# Altium footprint library Footprints.PcbLib: 54 footprints (part 3 of 4)
Each footprint in its own frame and in the unit in brackets; x right, y up, seen from the top. Pads: shape width x height; smd on the part's side, far side on the other; paste and mask are expansions set on the pad; w line width, h text height; cw(c..) or ccw(c..) is an arc to the next point about the centre after c.
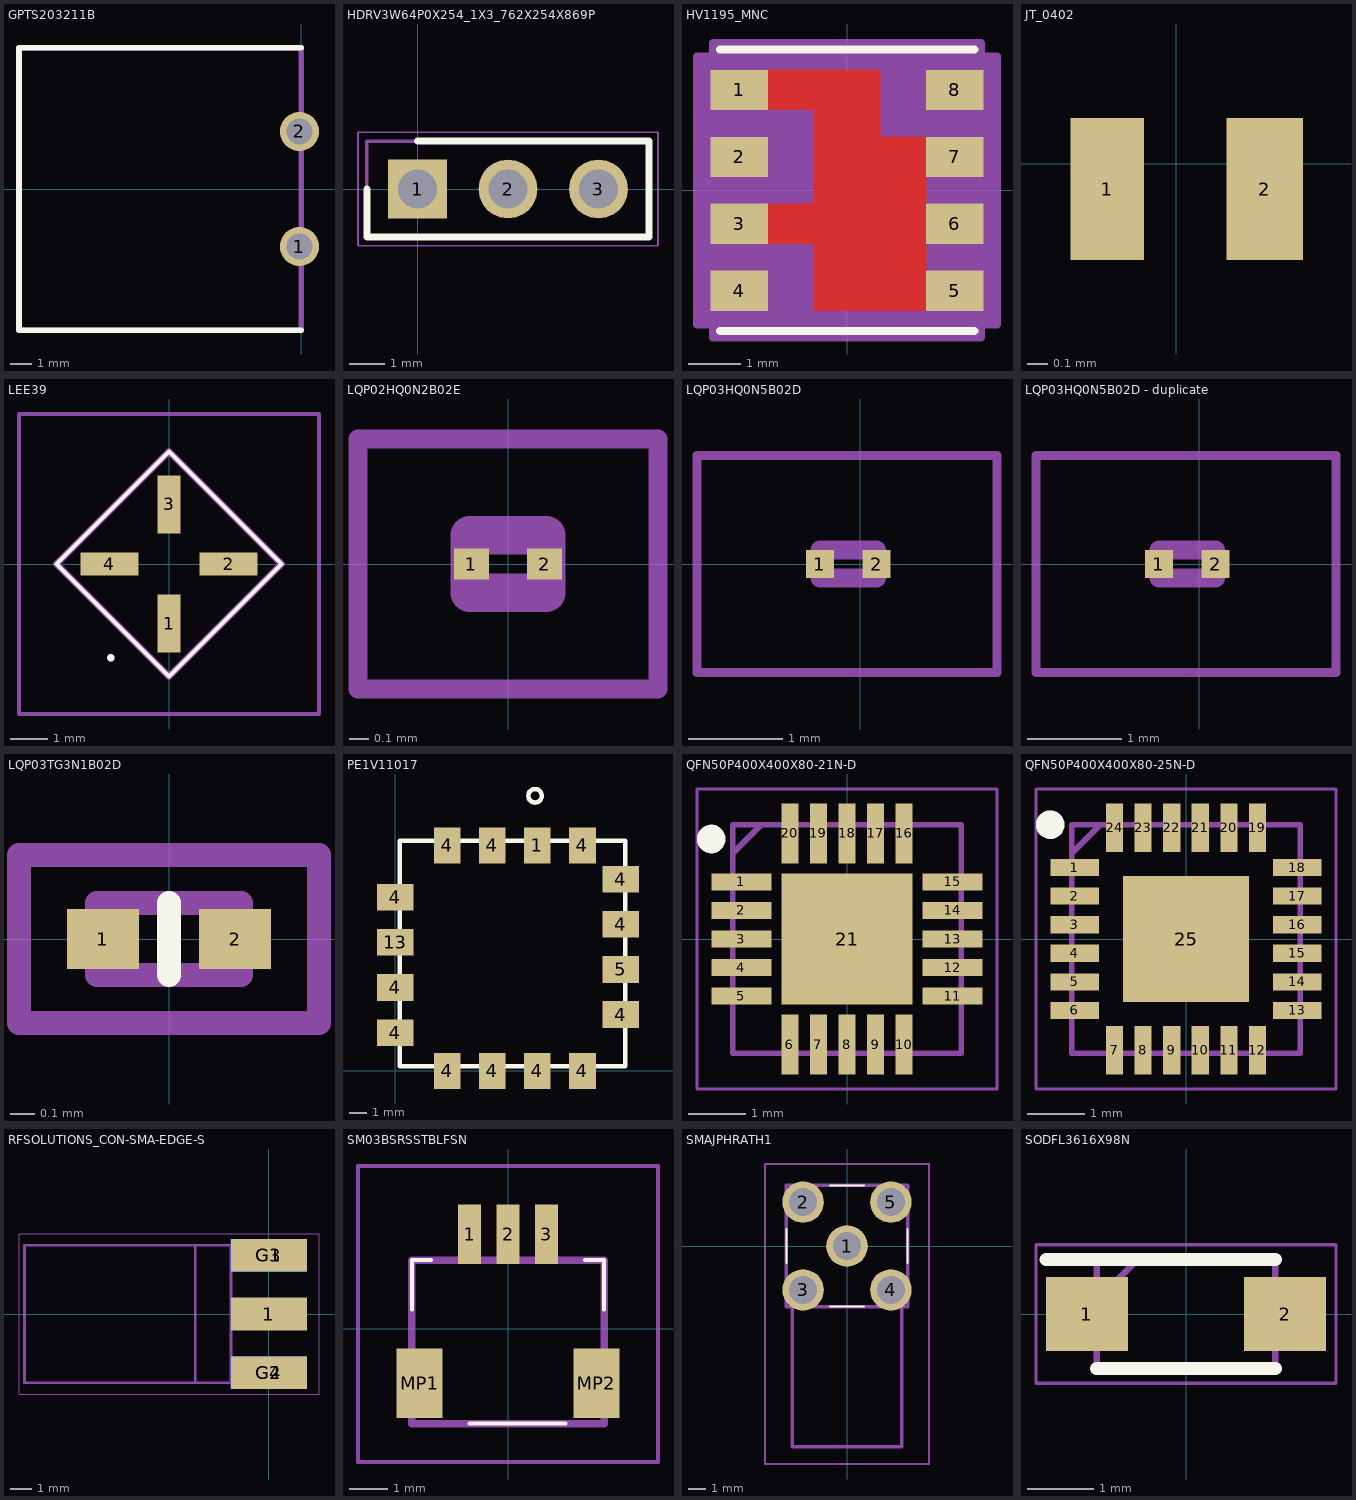
[diagram p2: the footprints below, top view; thin cyan lines are the x and y axes]

## GPTS203211B [mm]
pads (2):
  round 1.8 hole 1.2: 1(-0.081,-2.65) 2(-0.081,2.65)
Top Overlay:
  lines w0.254: 0,-6.5 -13,-6.5 -13,6.5 0,6.5
Mechanical 13:
  lines w0.254: -13,-6.5 0,-6.5 0,6.5 -13,6.5 -13,-6.5
3D body "GPTS203211B.stp": height 9.21, standoff -2.09, extent -12.79,-6.02 0.11,5.98

## HDRV3W64P0X254_1X3_762X254X869P [mm]
pads (3):
  rect 1.65x1.65 hole 1.1: 1(0,0)
  round 1.65 hole 1.1: 2(2.54,0) 3(5.08,0)
Top Overlay:
  lines w0.2: -1.42,0 -1.42,-1.345 6.5,-1.345 6.5,1.345 0,1.345
Mechanical 13:
  lines w0.1: -1.42,-1.345 -1.42,1.345 6.5,1.345 6.5,-1.345 -1.42,-1.345
Mechanical 15:
  lines w0.05: -1.67,-1.595 -1.67,1.595 6.75,1.595 6.75,-1.595 -1.67,-1.595
3D body "61300311121.stp": height 8.69, standoff -3.2, extent -1.27,-1.27 6.35,1.27

## HV1195_MNC [mil]
pads (8):
  rect 43x30 smd paste-15 mask+0: 1(-80.5,75) 2(-80.5,25) 3(-80.5,-25) 4(-80.5,-75) 5(80.5,-75) 6(80.5,-25) 7(80.5,25) 8(80.5,75)
Top Layer:
  region: -59,60 -59,90 25,90 25,40 59,40 59,-90 -25,-90 -25,-40 -59,-40 -59,-10 -25,-10 -25,60
Top Overlay:
  lines w6: -95,-105 95,-105 ; -95,105 95,105
Top Paste:
  region: -59,60 -59,90 25,90 25,40 59,40 59,-90 -25,-90 -25,-40 -59,-40 -59,-10 -25,-10 -25,60
Top Solder:
  region: -59,60 -59,90 25,90 25,40 59,40 59,-90 -25,-90 -25,-40 -59,-40 -59,-10 -25,-10 -25,60
Mechanical 13:
  lines w0: -12,100 ccw(c0,100) 12,100
  lines w1: -90,-100 90,-100 90,100 -90,100 -90,-100
Mechanical 15:
  region: -100,-100 -112,-100 -112,100 -100,100 -100,110 100,110 100,100 112,100 112,-100 100,-100 100,-110 -100,-110
  lines w6: -112,-100 -112,100 -100,100 -100,110 100,110 100,100 112,100 112,-100 100,-100 100,-110 -100,-110 -100,-100 -112,-100

## JT_0402 [mil]
pads (2):
  rect 14.5x28 smd: 1(-13.62,-5)
  rect 15x28 smd: 2(17.38,-5)
3D body: height 13.78, standoff 0, extent -18,-17 22,7

## LEE39 [mm]
pads (4):
  rect 0.61x1.545 smd: 1(0,-1.587) 3(0,1.588)
  rect 1.545x0.61 smd: 2(1.587,0) 4(-1.587,0)
Top Overlay:
  lines w0.1: -3,0 0,-3 3,0 0,3 -3,0 ; -1.6,-2.5 ccw(c-1.55,-2.5) -1.5,-2.5 ccw(c-1.55,-2.5) -1.6,-2.5
Mechanical 15:
  lines w0.2: -3,0 0,-3 3,0 0,3 -3,0
Mechanical 20:
  lines w0.1: -4,-4 -4,4 4,4 4,-4 -4,-4

## LQP02HQ0N2B02E [mm]
pads (2):
  rect 0.18x0.16 smd: 1(-0.19,0) 2(0.19,0)
Mechanical 13:
  lines w0.2: -0.2,-0.15 0.2,-0.15 0.2,0.15 -0.2,0.15 -0.2,-0.15
Mechanical 15:
  lines w0.1: -0.78,-0.65 0.78,-0.65 0.78,0.65 -0.78,0.65 -0.78,-0.65
3D body "LQP02HQ0N4W02L.stp": height 0.32, standoff 0, extent -0.2,-0.15 0.2,0.15

## LQP03HQ0N5B02D [mm]
pads (2):
  rect 0.3x0.3 smd: 1(-0.427,0) 2(0.173,0)
Mechanical 13:
  lines w0.2: -0.427,-0.15 0.173,-0.15 0.173,0.15 -0.427,0.15 -0.427,-0.15
Mechanical 15:
  lines w0.1: -1.73,-1.15 1.45,-1.15 1.45,1.15 -1.73,1.15 -1.73,-1.15
3D body "LQP03HQ0N5W02D.stp": height 0.42, standoff 0, extent -0.427,-0.15 0.173,0.15

## LQP03HQ0N5B02D - duplicate [mm]
pads (2):
  rect 0.3x0.3 smd: 1(-0.427,0) 2(0.173,0)
Mechanical 13:
  lines w0.2: -0.427,-0.15 -0.427,0.15 0.173,0.15 0.173,-0.15 -0.427,-0.15
Mechanical 15:
  lines w0.1: -1.73,-1.15 -1.73,1.15 1.45,1.15 1.45,-1.15 -1.73,-1.15
3D body "LQP03HQ0N5W02D.stp": height 0.42, standoff 0, extent -0.427,-0.15 0.173,0.15

## LQP03TG3N1B02D [mm]
pads (2):
  rect 0.3x0.25 smd: 1(-0.275,0) 2(0.275,0)
Top Overlay:
  lines w0.1: 0,-0.15 0,0.15
Mechanical 13:
  lines w0.1: -0.3,-0.15 -0.3,0.15 0.3,0.15 0.3,-0.15 -0.3,-0.15
Mechanical 15:
  lines w0.1: -0.625,-0.35 -0.625,0.35 0.625,0.35 0.625,-0.35 -0.625,-0.35
3D body "LQP03TN0N6B02D.stp": height 0.33, standoff 0, extent -0.3,-0.15 0.3,0.15

## PE1V11017 [mil]
pads (16):
  rect 59.06x80 smd: 1(315,500) 4(115,0) 4(115,500) 4(215,0) 4(215,500) 4(315,0) 4(415,0) 4(415,500)
  rect 80x59.06 smd: 4(0,85) 4(0,185) 4(0,385) 4(500,125) 4(500,325) 4(500,425) 5(500,225) 13(0,285)
Top Overlay:
  circle w10: c310,610 r15
  lines w10: 10,10 510,10 510,510 10,510 10,10

## QFN50P400X400X80-21N-D [mm]
pads (21):
  rect 1.05x0.3 smd: 1(-1.85,1) 2(-1.85,0.5) 3(-1.85,0) 4(-1.85,-0.5) 5(-1.85,-1) 11(1.85,-1) 12(1.85,-0.5) 13(1.85,0) 14(1.85,0.5) 15(1.85,1)
  rect 0.3x1.05 smd: 6(-1,-1.85) 7(-0.5,-1.85) 8(0,-1.85) 9(0.5,-1.85) 10(1,-1.85) 16(1,1.85) 17(0.5,1.85) 18(0,1.85) 19(-0.5,1.85) 20(-1,1.85)
  rect 2.3x2.3 smd: 21(0,0)
Top Overlay:
  circle w0.25: c-2.375,1.75 r0.125
Mechanical 13:
  lines w0.1: -2,1.5 -1.5,2 ; -2,-2 2,-2 2,2 -2,2 -2,-2
Mechanical 15:
  lines w0.05: -2.625,-2.625 2.625,-2.625 2.625,2.625 -2.625,2.625 -2.625,-2.625
3D body "ADF4106BCPZ-R7.stp": height 0.8, standoff 0, extent -2.05,-2.05 2.05,2.05

## QFN50P400X400X80-25N-D [mm]
pads (25):
  rect 0.85x0.3 smd: 1(-1.95,1.25) 2(-1.95,0.75) 3(-1.95,0.25) 4(-1.95,-0.25) 5(-1.95,-0.75) 6(-1.95,-1.25) 13(1.95,-1.25) 14(1.95,-0.75) 15(1.95,-0.25) 16(1.95,0.25) 17(1.95,0.75) 18(1.95,1.25)
  rect 0.3x0.85 smd: 7(-1.25,-1.95) 8(-0.75,-1.95) 9(-0.25,-1.95) 10(0.25,-1.95) 11(0.75,-1.95) 12(1.25,-1.95) 19(1.25,1.95) 20(0.75,1.95) 21(0.25,1.95) 22(-0.25,1.95) 23(-0.75,1.95) 24(-1.25,1.95)
  rect 2.2x2.2 smd: 25(0,0)
Top Overlay:
  circle w0.25: c-2.375,2 r0.125
Mechanical 13:
  lines w0.1: -2,1.5 -1.5,2 ; -2,-2 2,-2 2,2 -2,2 -2,-2
Mechanical 15:
  lines w0.05: -2.625,-2.625 2.625,-2.625 2.625,2.625 -2.625,2.625 -2.625,-2.625
3D body "ADF4159CCPZ-RL7.stp": height 0.8, standoff 0, extent -2.05,-2.05 2.05,2.05

## RFSOLUTIONS_CON-SMA-EDGE-S [mm]
height 6.35
pads (5):
  rect 3.5x1.5 smd: 1(0,0) G1(0,2.7) G2(0,-2.7)
  rect 3.5x1.5 smd far side: G3(0,2.7) G4(0,-2.7)
Mechanical 13:
  lines w0.127: -3.4,-3.175 -1.75,-3.175 -1.75,3.175 -3.4,3.175 ; -3.4,-3.175 -3.4,3.175 ; -3.4,-3.175 -11.27,-3.175 -11.27,3.175 -3.4,3.175
Mechanical 14:
  lines w0.127: -3.4,-3.175 -3.4,3.175 ; -3.4,-3.175 -1.75,-3.175 -1.75,3.175 -3.4,3.175 ; -3.4,-3.175 -11.27,-3.175 -11.27,3.175 -3.4,3.175
Mechanical 15:
  lines w0.05: -11.52,-3.7 2.31,-3.7 2.31,3.7 -11.52,3.7 -11.52,-3.7
Mechanical 16:
  lines w0.05: -11.52,-3.7 2.31,-3.7 2.31,3.7 -11.52,3.7 -11.52,-3.7
3D body "step_temp.STEP": height 3.55, standoff -2.8, extent -11.27,-3.175 2.06,3.175

## SM03BSRSSTBLFSN [mm]
pads (5):
  rect 0.6x1.55 smd: 1(-1,2.463) 2(0,2.463) 3(1,2.463)
  rect 1.2x1.8 smd: MP1(-2.3,-1.413) MP2(2.3,-1.413)
Top Overlay:
  lines w0.1: -2.5,0.5 -2.5,1.787 -2,1.787 ; -1,-2.463 1.5,-2.463 ; 2,1.787 2.5,1.787 2.5,0.5
Mechanical 13:
  lines w0.2: -2.5,-2.463 2.5,-2.463 2.5,1.787 -2.5,1.787 -2.5,-2.463
Mechanical 15:
  lines w0.1: -3.9,-3.463 3.9,-3.463 3.9,4.237 -3.9,4.237 -3.9,-3.463
3D body "SM03B-SRSS-TB_LF__SN_.stp": height 2.96, standoff 0, extent -2.5,-2.085 2.5,2.865

## SMAJPHRATH1 [mm]
pads (5):
  round 2.4 hole 1.6: 1(0,0) 2(-2.54,2.54) 3(-2.54,-2.54) 4(2.54,-2.54) 5(2.54,2.54)
Top Overlay:
  lines w0.1: -3.5,-1 -3.5,1 ; -1,-3.5 1,-3.5 ; -1,3.5 1,3.5 ; 3.5,-1 3.5,1
Mechanical 13:
  lines w0.2: -3.165,-3.5 -3.165,-11.6 3.165,-11.6 3.165,-3.5 ; -3.5,-3.5 -3.5,3.5 3.5,3.5 3.5,-3.5 -3.5,-3.5
Mechanical 15:
  lines w0.1: -4.74,-12.6 -4.74,4.74 4.74,4.74 4.74,-12.6 -4.74,-12.6
3D body "SMA-J-P-H-RA-TH1.stp": height 9.85, standoff -3.95, extent -3.5,-11.48 3.5,3.62

## SODFL3616X98N [mm]
pads (2):
  rect 1.24x1.12 smd: 1(-1.5,0) 2(1.5,0)
Top Overlay:
  lines w0.2: -2.12,0.825 1.35,0.825 ; -1.35,-0.825 1.35,-0.825
Mechanical 13:
  lines w0.1: -1.35,0.205 -0.73,0.825 ; -1.35,-0.825 -1.35,0.825 1.35,0.825 1.35,-0.825 -1.35,-0.825
Mechanical 15:
  lines w0.05: -2.27,-1.05 -2.27,1.05 2.27,1.05 2.27,-1.05 -2.27,-1.05
3D body "MBR120VLSFT1G.stp": height 0.98, standoff 0, extent -1.8,-0.825 1.8,0.825